# Altium footprint library VQFN-20.PcbLib: 1 footprints
Each footprint in its own frame and in the unit in brackets; x right, y up, seen from the top. Pads: shape width x height; smd on the part's side, far side on the other; paste and mask are expansions set on the pad; w line width, h text height; cw(c..) or ccw(c..) is an arc to the next point about the centre after c.
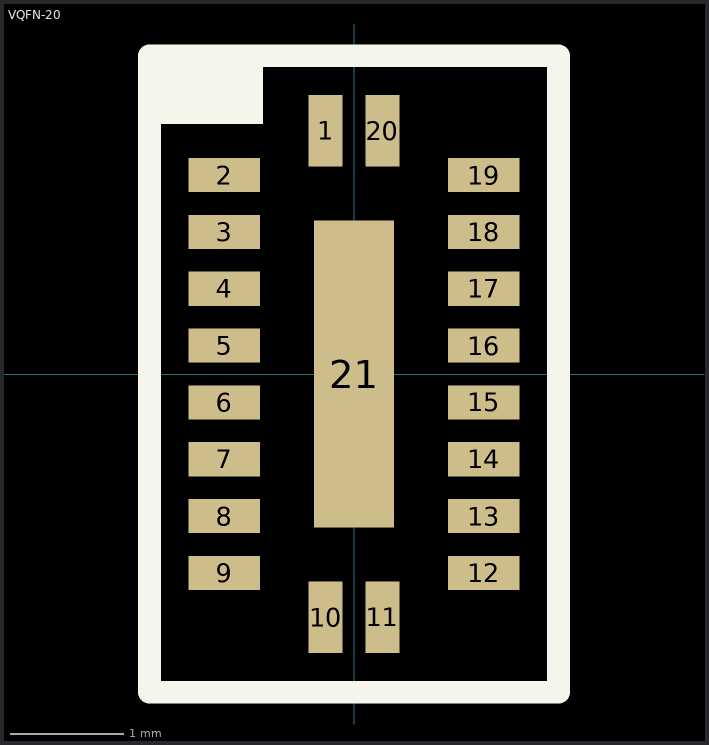
[diagram p0: the footprint, top view; thin cyan lines are the x and y axes]

## VQFN-20 [mm]
height 0.8
pads (21):
  rect 0.3x0.63 smd: 1(-0.25,2.14) 10(-0.25,-2.14) 11(0.25,-2.14) 20(0.25,2.14)
  rect 0.63x0.3 smd: 2(-1.14,1.75) 3(-1.14,1.25) 4(-1.14,0.75) 5(-1.14,0.25) 6(-1.14,-0.25) 7(-1.14,-0.75) 8(-1.14,-1.25) 9(-1.14,-1.75) 12(1.14,-1.75) 13(1.14,-1.25) 14(1.14,-0.75) 15(1.14,-0.25) 16(1.14,0.25) 17(1.14,0.75) 18(1.14,1.25) 19(1.14,1.75)
  rect 0.7x2.7 smd: 21(0,0)
Top Overlay:
  rectangle: -1.8,2.2 -0.8,2.8
  lines w0.2: -1.8,-2.8 -1.8,2.8 1.8,2.8 1.8,-2.8 -1.8,-2.8
3D body: height 0.81, standoff 0.8, extent -1.1,1.9 -0.9,2.1
3D body: height 0.8, standoff 0, extent -1.25,-2.25 1.25,2.25